# Altium footprint library Варисторы.PcbLib: 6 footprints
Each footprint in its own frame and in the unit in brackets; x right, y up, seen from the top. Pads: shape width x height; smd on the part's side, far side on the other; paste and mask are expansions set on the pad; w line width, h text height; cw(c..) or ccw(c..) is an arc to the next point about the centre after c.
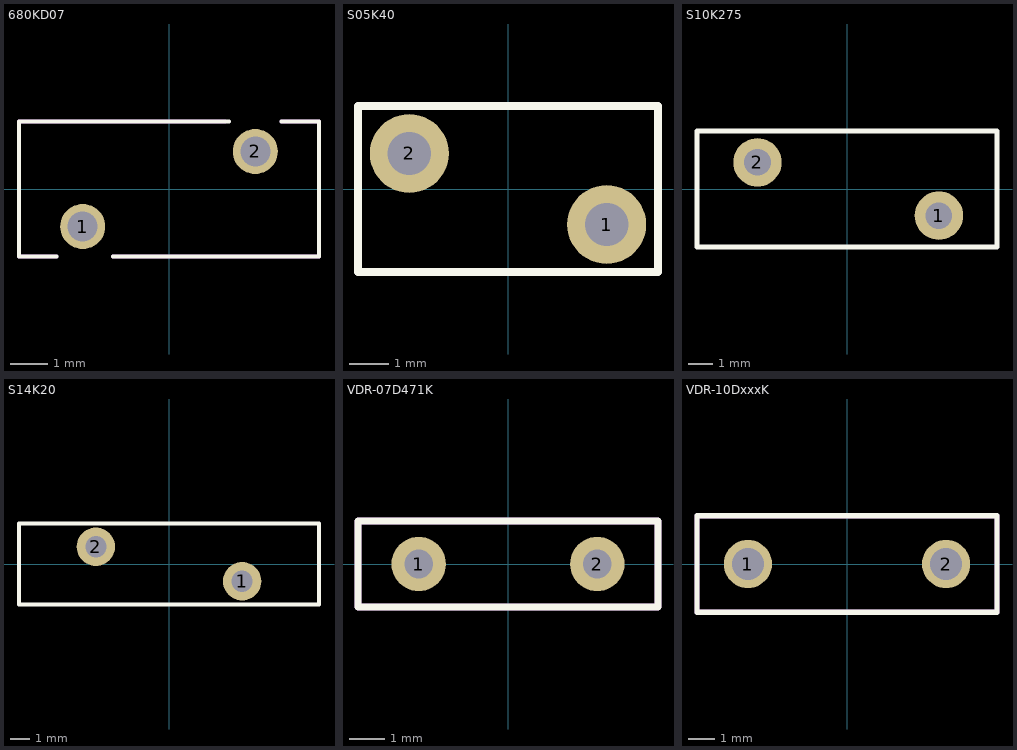
[diagram p0: the footprints below, top view; thin cyan lines are the x and y axes]

## 680KD07 [mm]
pads (2):
  round 1.2 hole 0.8: 1(-2.3,-1) 2(2.3,1)
Top Overlay:
  lines w0.1: -3,-1.8 -4,-1.8 -4,1.8 1.6,1.8 ; -1.5,-1.8 4,-1.8 4,1.8 3,1.8
TopAssy:
  lines w0.1: -3,-1.8 -4,-1.8 -4,1.8 1.5,1.8 ; -1.5,-1.8 4,-1.8 4,1.8 3,1.8
  text ".Designator" at -1.6,-0.5 h1.52
3D body "680KD07.STEP": height 13, standoff -19, extent -4,-1.775 4,1.775

## S05K40 [mm] "Varistor, Radial, Snap-In Pins; Body R6mm; Pin Spacing 5 mm (typ)"
height 8.5
pads (2):
  round 2 hole 1.1: 1(2.5,-0.9) 2(-2.5,0.9)
Top Overlay:
  lines w0.2: -3.8,-2.1 3.8,-2.1 3.8,2.1 -3.8,2.1 -3.8,-2.1
TopAssy:
  lines w0.1: -3.8,-2.1 -3.8,2.1 3.8,2.1 3.8,-2.1 -3.8,-2.1
  text ".Designator" at -1.3,-0.7 h1.52
3D body "s05k40.stp": height 7.5, standoff -1, extent -3.025,-1.3 3.075,1.6

## S10K275 [mm] "Varistor, Radial, Snap-In Pins; Body R6mm; Pin Spacing 5 mm (typ)"
height 8.5
pads (2):
  round 2 hole 1.1: 1(3.8,-1.1) 2(-3.7,1.1)
Top Overlay:
  lines w0.2: -6.2,-2.4 -6.2,2.4 6.2,2.4 6.2,-2.4 -6.2,-2.4
TopAssy:
  lines w0.1: -6.2,-2.4 6.2,-2.4 6.2,2.4 -6.2,2.4 -6.2,-2.4
  text ".Designator" at -1.3,-0.7 h1.52
3D body "S10K275.STEP": height 14, standoff -1.5, extent -6,-1.9 6,1.902

## S14K20 [mm] "Varistor, Radial, Snap-In Pins; Body R6mm; Pin Spacing 5 mm (typ)"
height 8.5
pads (2):
  round 2 hole 1.1: 1(3.8,-0.9) 2(-3.8,0.9)
Top Overlay:
  lines w0.2: -7.8,-2.1 7.8,-2.1 7.8,2.1 -7.8,2.1 -7.8,-2.1
TopAssy:
  lines w0.1: -7.8,-2.1 -7.8,2.1 7.8,2.1 7.8,-2.1 -7.8,-2.1
  text ".Designator" at -1.3,-0.7 h1.52
3D body "S14K20.STEP": height 18.75, standoff -2, extent -7.75,-2.1 7.75,2.1

## VDR-07D471K [mm]
pads (2):
  round 1.524 hole 0.8: 1(-2.5,0) 2(2.5,0)
Top Overlay:
  lines w0.2: -4.2,-1.2 4.2,-1.2 4.2,1.2 -4.2,1.2 -4.2,-1.2
TopAssy:
  lines w0.2: -4.2,-1.2 -4.2,1.2 4.2,1.2 4.2,-1.2 -4.2,-1.2
  text ".Designator" at -1.4,-0.6 h1.52
3D body "07D471K.step": height 10.5, standoff -9.28, extent -3.993,-1 3.999,1

## VDR-10DxxxK [mm]
pads (2):
  round 1.8 hole 1.2: 1(-3.7,0) 2(3.7,0)
Top Overlay:
  lines w0.2: -5.6,-1.8 -5.6,1.8 5.6,1.8 5.6,-1.8 -5.6,-1.8
TopAssy:
  lines w0.2: -5.6,-1.8 5.6,-1.8 5.6,1.8 -5.6,1.8 -5.6,-1.8
  text ".Designator" at -1.4,-0.6 h1.52
3D body "User Library-MOV-10DxxxK.STEP": height 13.5, standoff -2, extent -5.5,-1.7 5.5,1.71